# Altium footprint library PSOP.PcbLib: 1 footprints
Each footprint in its own frame and in the unit in brackets; x right, y up, seen from the top. Pads: shape width x height; smd on the part's side, far side on the other; paste and mask are expansions set on the pad; w line width, h text height; cw(c..) or ccw(c..) is an arc to the next point about the centre after c.
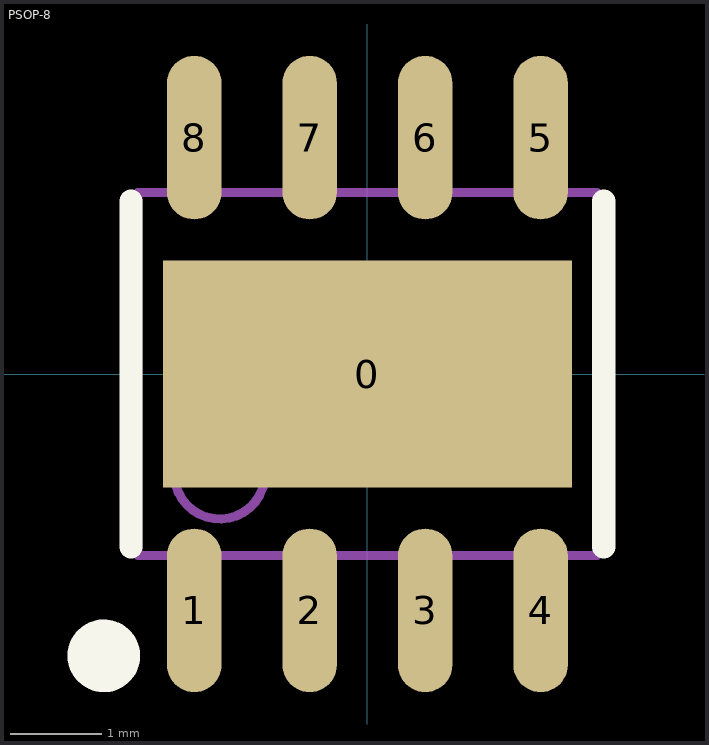
[diagram p0: the footprint, top view; thin cyan lines are the x and y axes]

## PSOP-8 [mm]
pads (9):
  rect 4.5x2.5 smd: 0(0,0)
  oval 0.6x1.8 smd: 1(-1.905,-2.6) 2(-0.635,-2.6) 3(0.635,-2.6) 4(1.905,-2.6) 5(1.905,2.6) 6(0.635,2.6) 7(-0.635,2.6) 8(-1.905,2.6)
Top Overlay:
  circle w0.4: c-2.9,-3.1 r0.2
  lines w0.254: -2.6,-1.9 -2.6,1.9 ; 2.6,-1.9 2.6,1.9
Mechanical 13:
  circle w0.1: c-1.625,-1.095 r0.5
  lines w0.1: -2.525,-1.995 -2.525,1.995 2.525,1.995 2.525,-1.995 -2.525,-1.995
3D body "User Library-SOIC-8-150.STEP": height 1.75, standoff 0, extent -2.5,-3.1 2.5,3.1